# Altium schematic symbol library Ring Flex SCH Lib.SchLib: 2 symbols
Pins are listed as number, name and electrical type; pins without a type are passive.

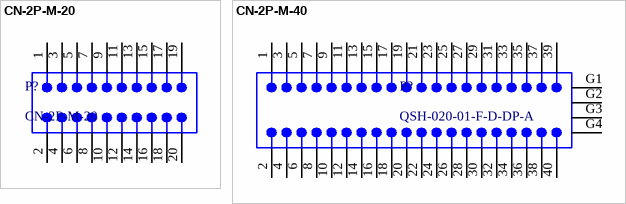
[diagram p0: symbols CN-2P-M-20 to CN-2P-M-40]

## CN-2P-M-20
designator P?
Board-to-Board Connector, Vertical, 2-Row, Pitch 0.80mm, 20-Position, Male
footprint SLH-010-1.50-G-D-A (0.50 mm Razor Beam™ LP Ultra Low Profile Socket Strip)
pins: 1, 2, 3, 4, 5, 6, 7, 8, 9, 10, 11, 12, 13, 14, 15, 16, 17, 18, 19, 20

## CN-2P-M-40
designator P?, comment QSH-020-01-F-D-DP-A
Board-to-Board Connector, Differnetial Pair, Vertical, 2-Row, Pitch 0.50mm, 40-Position, Male
footprint QSH-020-01-X-D-DP-A
pins: 1, 2, 3, 4, 5, 6, 7, 8, 9, 10, 11, 12, 13, 14, 15, 16, 17, 18, 19, 20, 21 20, 22 21, 23 21, 24 22, 25 22, 26 23, 27 23, 28 24, 29 24, 30 25, 31 25, 32 26, 33 26, 34 27, 35 27, 36 28, 37 28, 38 29, 39 29, 40 30, G1, G2, G3, G4